# Altium schematic symbol library jetson-tx-camera-adapter.SchLib: 26 symbols
Pins are listed as number, name and electrical type; pins without a type are passive.

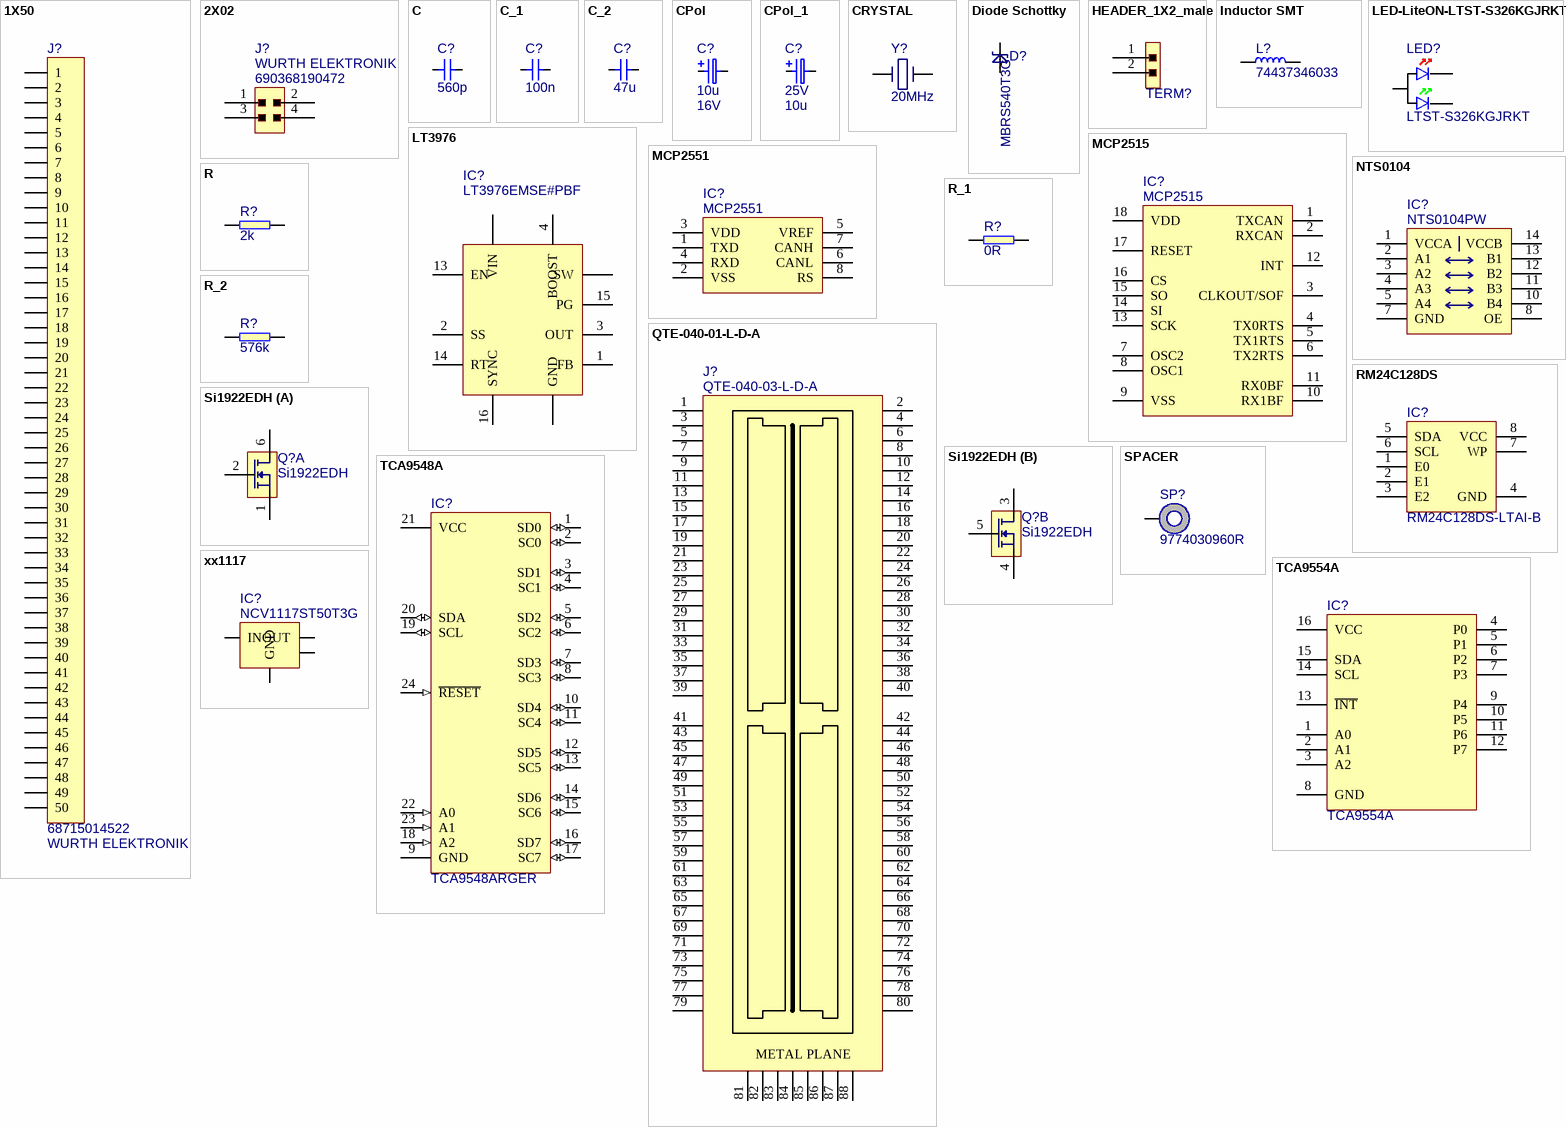
[diagram p0: symbols 1X50 to xx1117]

## 1X50
designator J?, comment 68715014522  Manufacturer: WURTH ELEKTRONIK
0.50mm SMT ZIF Horizontal Bottom Contact WR-FPC; Part Number: WE-687-150-145-22_FLIPPED; Supplier Part Number 1: 1908481; Value: 68715014522; Supplier 1: Farnell; Part Symbol: 68715014522
footprint 68715014522_FLIPPED
pins: 1, 2, 3, 4, 5, 6, 7, 8, 9, 10, 11, 12, 13, 14, 15, 16, 17, 18, 19, 20, 21, 22, 23, 24, 25, 26, 27, 28, 29, 30, 31, 32, 33, 34, 35, 36, 37, 38, 39, 40, 41, 42, 43, 44, 45, 46, 47, 48, 49, 50

## 2X02
designator J?, comment Manufacturer: WURTH ELEKTRONIK  Part Symbol: 690368190472  (hidden comment: WE_690368190472)
Part Number: WE_690368190472; Value: WE_690368190472
footprint WE_690368190472
pins: 1, 2, 3, 4

## C
designator C?, comment 560p
MLCC SMT Capacitor 560pF 0603; Part Number: C_560p_0603; Manufacturer: MULTICOMP; Part Symbol: MC0603N561J500CT; Value: 560p; Supplier 1: Farnell; Supplier Part Number 1: 1759082
footprint 0603
pins: 1, 2
1 alternate drawing of the same symbol

## C_1
designator C?, comment 100n
MLCC SMT Capacitor 100nF 0402; Part Number: C_100n_0402; Manufacturer: MULTICOMP; Part Symbol: MC0402X104M100CT; Value: 100n; Supplier 1: Farnell; Supplier Part Number 1: 2309011
footprint 0402
pins: 1, 2
1 alternate drawing of the same symbol

## C_2
designator C?, comment 47u
MLCC SMT Capacitor 47uF 1206; Part Number: C_47u_1206; Manufacturer: MURATA; Part Symbol: GRM31CC80J476KE18L; Value: 47u; Supplier 1: Farnell; Supplier Part Number 1: 2218907
footprint 1206
pins: 1, 2
1 alternate drawing of the same symbol

## CPol
designator C?, comment Voltage: 16V  (hidden comment: 10u)
Tantalum SMT Capacitor 10uF Case KEMET_A; Part Number: C_10u_KEMET_A; Manufacturer: VISHAY; Part Symbol: 293D106X9016A2TE3; Value: 10u; Supplier 1: Farnell; Supplier Part Number 1: 1754182
footprint KEMET_A
pins: 1, 2
1 alternate drawing of the same symbol

## CPol_1
designator C?, comment value 10u  Voltage: 25V  (hidden comment: CPol)
Tantalum SMT Capacitor 10uF Case KEMET_C; Part Number: C_10u_KEMET_C; Manufacturer: KEMET; Part Symbol: T491C106K025AT; Supplier 1: Farnell; Supplier Part Number 1: 1457463
footprint KEMET_C
pins: 1, 2
1 alternate drawing of the same symbol

## CRYSTAL
designator Y?, comment 20MHz
CRYSTAL, 20.000MHZ; Part Number: CRYSTAL_20MHz_SMD_TXC; Manufacturer: TXC; Part Symbol: 7A-20.000MAAJ-T; Value: 20MHz; Supplier 1: Farnell; Supplier Part Number 1: 1841950
footprint TXC_7A
pins: 1, 2

## Diode Schottky
designator D?, comment MBRS540T3G
ON SEMICONDUCTOR  MBRS540T3G  Rectifier Diode, Single, 40 V, 5 A, 500 mV, 190 A; Part Number: MBRS540T3G; Value: MBRS540T3G; Supplier 1: Farnell; Supplier Part Number 1: 2101838; Manufacturer: ON SEMICONDUCTOR; Part Symbol: MBRS540T3G
footprint SMC-403-03
pins: A, C

## HEADER_1X2_male
designator TERM?  (value not drawn)
1x2 pinhead male; Part Number: HEADER_1X2_male
footprint HEADER_1X2_male 2.54mm
pins: 1, 2

## Inductor SMT
designator L?, comment 74437346033
3.3 uH, 5.0A, 0.03 ohm, SMD Power Inductor; Part Number: Wurth-74437346033; Manufacturer: WURTH ELEKTRONIK; Value: 74437346033; Supplier 1: Farnell; Supplier Part Number 1: 2077789; Part Symbol: 74437346033
footprint WE-LHMI
pins: 1, 2

## LED-LiteON-LTST-S326KGJRKT
designator LED?  Part Symbol: LTST-S326KGJRKT  (hidden comment: LED-LiteON-LTST-S326KGJRKT)
Standard LEDs - SMD Green/Red Clear 571nm/631nm; Manufacturer: Lite-On; Part Number: LED-LiteON-LTST-S326KGJRKT; Value: LED-LiteON-LTST-S326KGJRKT; Supplier 1: Mouser; Supplier Part Number 1: 859-LTST-S326KGJRKT
footprint LED-LiteON-LTST-S326KGJRKT
pins: A, C1, C2

## LT3976
designator IC?, comment LT3976EMSE#PBF
LINEAR TECHNOLOGY  LT3976EMSE#PBF  DC-DC CONVERTER, 2MHZ, 5A, MSOP-16; Part Number: LT3976EMSE#PBF; Value: LT3976EMSE#PBF; Supplier 1: Farnell; Supplier Part Number 1: 2215131; Manufacturer: LINEAR TECHNOLOGY; Part Symbol: LT3976EMSE#PBF; ClassName: 12V0 Converter
footprint MSOP-16
footprint LT3976EMSE
pins: 1 FB, 2 SS, 3 OUT, 4 BOOST, 13 EN, 14 RT, 15 PG, 16 SYNC, GND, SW, VIN

## MCP2515
designator IC?
CAN CONTROLLER, SPI, 1MBPS; Part Number: MCP2515-I/SO; Manufacturer: MICROCHIP; Supplier 1: Farnell; Supplier Part Number 1: 1292239; Value: MCP2515; Part Symbol: MCP2515-I/SO
footprint SOIC-18
pins: 1 TXCAN, 2 RXCAN, 3 CLKOUT/SOF, 4 TX0RTS, 5 TX1RTS, 6 TX2RTS, 7 OSC2, 8 OSC1, 9 VSS (power), 10 RX1BF, 11 RX0BF, 12 INT, 13 SCK, 14 SI, 15 SO, 16 CS, 17 RESET, 18 VDD (power)

## MCP2551
designator IC?
MCP2551-I/SN  IC, CAN TRANSCEIVER, HI SPEED, SMD; Manufacturer: MICROCHIP; Supplier 1: Farnell; Supplier Part Number 1: 9758569; Part Number: MCP2551-I/SN; Value: MCP2551; Part Symbol: MCP2551-I/SN
footprint SOIC-8
pins: 1 TXD, 2 VSS (power), 3 VDD (power), 4 RXD, 5 VREF (power), 6 CANL, 7 CANH, 8 RS

## NTS0104
designator IC?, comment NTS0104PW
4 bit voltage level translator; Manufacturer: NXP; Part Number: NTS0104PW; Value: NTS0104PW; Supplier 1: Farnell; Supplier Part Number 1: 2164815; Part Symbol: NTS0104PW
footprint TSSOP-14
pins: 1 VCCA, 2 A1, 3 A2, 4 A3, 5 A4, 7 GND, 8 OE, 10 B4, 11 B3, 12 B2, 13 B1, 14 VCCB

## QTE-040-01-L-D-A
designator J?, comment QTE-040-03-L-D-A
SAMTEC  QTE-040-03-L-D-A  Stacking Board Connector, Dual Row, QTE Series, 80 Contacts, Header, 0.8 mm, Surface Mount; Part Number: QTE-040-03-L-D-A; Supplier Part Number 1: 1667888; Value: QTE-040-03-L-D-A; Supplier 1: Farnell; Manufacturer: SAMTEC; Part Symbol: QTE-040-03-L-D-A
footprint QTE-040-03-L-D-A
pins: 1, 2, 3, 4, 5, 6, 7, 8, 9, 10, 11, 12, 13, 14, 15, 16, 17, 18, 19, 20, 21, 22, 23, 24, 25, 26, 27, 28, 29, 30, 31, 32, 33, 34, 35, 36, 37, 38, 39, 40, 41, 42, 43, 44, 45, 46, 47, 48, 49, 50, 51, 52, 53, 54, 55, 56, 57, 58, 59, 60, 61, 62, 63, 64, 65, 66, 67, 68, 69, 70, 71, 72, 73, 74, 75, 76, 77, 78, 79, 80, 81, 82, 83, 84, 85, 86, 87, 88
text: METAL PLANE

## R
designator R?, comment 2k
SMT Resistor 2k 0603; Part Number: R_2k_0603; Manufacturer: MULTICOMP; Part Symbol: MCMR06X2001FTL; Value: 2k; Supplier 1: Farnell; Supplier Part Number 1: 2073418
footprint 0603
pins: 1, 2

## R_1
designator R?, comment 0R
SMT Resistor 0402; Part Number: R_0R_0402; Manufacturer: MULTICOMP; Part Symbol: MCMR04X000 PTL; Value: 0R; Supplier 1: Farnell; Supplier Part Number 1: 2072513
footprint 0402
pins: 1, 2

## R_2
designator R?, comment 576k
SMT Resistor 576k 0805 0.1%; Part Number: R_576k_0805_0.1%; Manufacturer: PANASONIC ELECTRONIC COMPONENTS; Part Symbol: ERA-6AEB5763V; Value: 576k; Tolerance: 0.1%; Supplier 1: Mouser; Supplier Part Number 1: 667-ERA-6AEB5763V
footprint 0805
pins: 1, 2

## RM24C128DS
designator IC?, comment RM24C128DS-LTAI-B
EEPROM with UID and OTP registers.; Manufacturer: Adesto; Part Number: RM24C128DS; Value: RM24C128DS-LTAI-B; Supplier 1: Digi-Key; Supplier Part Number 1: 1265-1249-ND; Part Symbol: RM24C128DS-LTAI-B
footprint TSSOP-8
pins: 1 E0, 2 E1, 3 E2, 4 GND, 5 SDA, 6 SCL, 7 WP, 8 VCC

## Si1922EDH
designator Q?
20 V, dual N-channel Trench MOSFET; Manufacturer: Vishay; Part Number: Si1922EDH; Value: Si1922EDH; Supplier 1: Farnell; Supplier Part Number 1: 2056714; Part Symbol: Si1922EDH
footprint SOT-363
part A pins: 1 S1, 2 G1, 6 D1
part B pins: 3 D2, 4 S2, 5 G2

## SPACER
designator SP?, comment 9774030960R
ROUND SPACER STEEL 3MM unthreaded; Manufacturer: WURTH ELEKTRONIK; Value: 9774030960R; Part Symbol: 9774030960
footprint 9774030960
pins: 1

## TCA9548A
designator IC?, comment TCA9548ARGER
TCA9548ARGER  I2C SWITCH W/ RESET, 8-CH, VQFN-24; Manufacturer: TEXAS INSTRUMENTS; Part Number: TCA9548ARGER; Value: TCA9548ARGER; Supplier 1: Farnell; Supplier Part Number 1: 2496588; Part Symbol: TCA9548ARGER
footprint VQFN-24
pins: 1 SD0 (io), 2 SC0 (io), 3 SD1 (io), 4 SC1 (io), 5 SD2 (io), 6 SC2 (io), 7 SD3 (io), 8 SC3 (io), 9 GND (power), 10 SD4 (io), 11 SC4 (io), 12 SD5 (io), 13 SC5 (io), 14 SD6 (io), 15 SC6 (io), 16 SD7 (io), 17 SC7 (io), 18 A2 (in), 19 SCL (io), 20 SDA (io), 21 VCC (power), 22 A0 (in), 23 A1 (in), 24 ~{RESET} (in)

## TCA9554A
designator IC?
Remote 8bit I2C SMBus I/O expander; Manufacturer: Texas Instruments; Part Number: TCA9554A; Value: TCA9554A; Supplier 1: Farnell; Supplier Part Number 1: 2496570; Part Symbol: TCA9554A
footprint DBQ0016A
pins: 1 A0, 2 A1, 3 A2, 4 P0, 5 P1, 6 P2, 7 P3, 8 GND, 9 P4, 10 P5, 11 P6, 12 P7, 13 ~{INT}, 14 SCL, 15 SDA, 16 VCC

## xx1117
designator IC?  value NCV1117ST50T3G  (hidden comment: xx1117)
ON SEMICONDUCTOR  NCV1117ST50T3G  Fixed LDO Voltage Regulator, 20V in, 1.07V Dropout, 5V/1A out, SOT-223-3; Part Number: NCV1117ST50T3G; Supplier 1: Farnell; Supplier Part Number 1: 2534280; Manufacturer: ON SEMICONDUCTOR; Part Symbol: NCV1117ST50T3G
footprint SOT223
pins: 1 GND (power), 2 OUT, 3 IN (power), 4 OUT